# EAGLE library part M21X1 (library work)
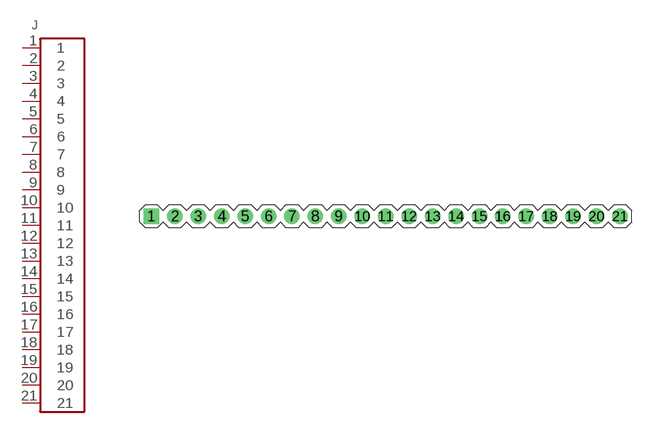
[diagram p86: symbol with the pads of M21X1; footprint M21X1]

Designator prefix J

## M21X1  [M21X1]
1  1
2  2
3  3
4  4
5  5
6  6
7  7
8  8
9  9
10  10
11  11
12  12
13  13
14  14
15  15
16  16
17  17
18  18
19  19
20  20
21  21

## Footprint M21X1 (pad centres in mm)
drill 1.016 pad 1.676 square: 1 -25.4,0
drill 1.016 pad 1.676: 2 -22.86,0; 3 -20.32,0; 4 -17.78,0; 5 -15.24,0; 6 -12.7,0; 7 -10.16,0; 8 -7.62,0; 9 -5.08,0; 10 -2.54,0; 11 0,0; 12 2.54,0; 13 5.08,0; 14 7.62,0; 15 10.16,0; 16 12.7,0; 17 15.24,0; 18 17.78,0; 19 20.32,0; 20 22.86,0; 21 25.4,0